# Altium footprint library V2.3SB.PcbLib: 50 footprints (part 4 of 4)
Each footprint in its own frame and in the unit in brackets; x right, y up, seen from the top. Pads: shape width x height; smd on the part's side, far side on the other; paste and mask are expansions set on the pad; w line width, h text height; cw(c..) or ccw(c..) is an arc to the next point about the centre after c.
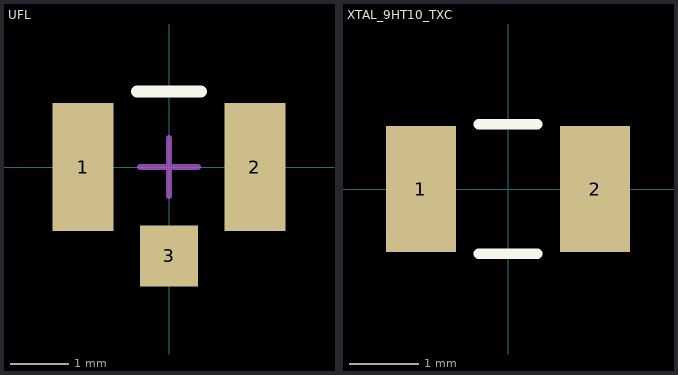
[diagram p3: the footprints below, top view; thin cyan lines are the x and y axes]

## UFL [mm] "SMT, 3-Leads, Body 2.6x2.6mm"
height 1.25
pads (3):
  rect 1.05x2.2 smd: 1(-1.475,0) 2(1.475,0)
  rect 1x1.05 smd: 3(0,-1.525)
Top Overlay:
  lines w0.2: -0.55,1.3 0.55,1.3
Mechanical 15:
  lines w0.1: -0.5,0 0.5,0 ; 0,-0.5 0,0.5
3D body: height 1.25, standoff 0, extent -1,-1 1,1
3D body: height 0.35, standoff 0, extent -1.3,-1.3 1.3,1.3

## XTAL_9HT10_TXC [mil]
pads (2):
  rect 39.5x71 smd paste+0 mask+0: 1(-49.25,0) 2(49.25,0)
Top Overlay:
  lines w6: -16.44,-36.5 16.44,-36.5 ; -16.44,36.5 16.44,36.5